# EAGLE library part AD825ARZ (library IC_Linear)
Low Cost, General-Purpose High Speed JFET Amplifier Datasheet <https://www.analog.com/media/en/technical-documentation/data-sheets/AD825.pdf>
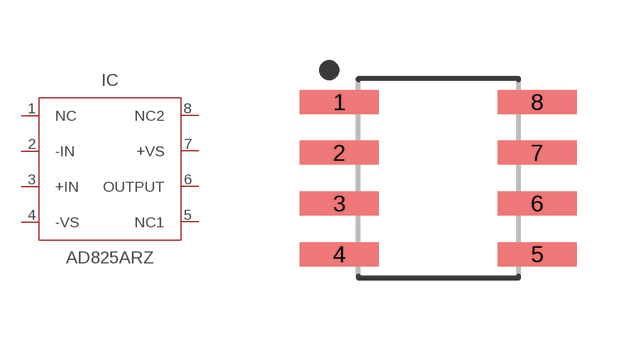
[diagram p2: symbol with the pads of SOIC127P600X175-8N; footprint SOIC127P600X175-8N]

Designator prefix IC

## AD825ARZSOIC (CATEGORY: IC_Linear; MANUFACTURER: Analog Devices; MPN: AD825ARZ; OPERATING_TEMP: -40 to +85 °C; PART_STATUS: Active; ROHS_COMPLIANT: RoHS3 Compliant; SUB-CATEGORY: Op-Amp)  [SOIC127P600X175-8N]
1  NC  nc
2  -IN  pwr
3  +IN  pwr
4  -VS  pwr
5  NC1  nc
6  OUTPUT  out
7  +VS  pwr
8  NC2  nc

## Footprint SOIC127P600X175-8N (pad centres in mm)
8-SOIC, 1.27 mm pitch, 6.00 mm span, 4.90 X 3.90 X 1.75 mm body 8-pin SOIC package with 1.27 mm pitch, 6.00 mm span with body size 4.90 X 3.90 X 1.75 mm
smd 1.968 x 0.599: 1 -2.473,1.905; 2 -2.473,0.635; 3 -2.473,-0.635; 4 -2.473,-1.905; 5 2.473,-1.905; 6 2.473,-0.635; 7 2.473,0.635; 8 2.473,1.905